# Altium schematic symbol library batteries_and_accus.SchLib: 13 symbols
Pins are listed as number, name and electrical type; pins without a type are passive.

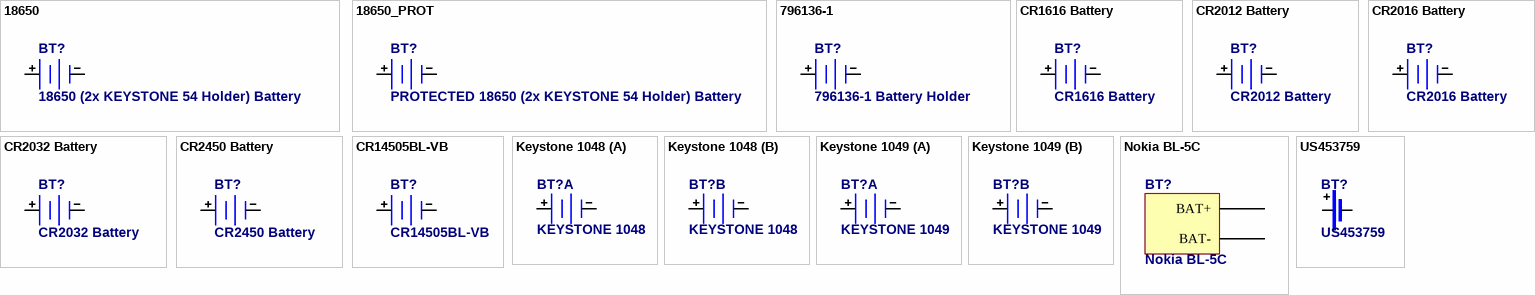
[diagram p0: symbols 18650 to US453759]

## 18650
designator BT?, comment 18650 (2x KEYSTONE 54 Holder) Battery
Published: 24-Mar-1999; Revision: July-2002: Re-released for DXP Platform.; Publisher: Altium Limited
footprint KEYSTONE_54
footprint KEYSTONE_54_W_18650
pins: 1 +, 2 -

## 18650_PROT
designator BT?, comment PROTECTED 18650 (2x KEYSTONE 54 Holder) Battery
Published: 24-Mar-1999; Revision: July-2002: Re-released for DXP Platform.; Publisher: Altium Limited
footprint KEYSTONE_54_W_PROT
footprint KEYSTONE_54_W_PROT_W_18650
pins: 1 +, 2 -

## 796136-1
designator BT?, comment 796136-1 Battery Holder
Tyco Connectivity 796136-1 CR2032 Battery Holder; Published: 24-Mar-1999; Revision: July-2002: Re-released for DXP Platform.; Publisher: Altium Limited; Supplier 1: TME; Supplier 2: Farnell; Supplier Part Number 1: 796136-1; Supplier Part Number 2: 1772402
footprint 796136-1 (Tyco Electronics 796136-1 CR2032 SMD Battery Holder)
pins: 1 +, 2 -

## CR1616 Battery
designator BT?
Published: 24-Mar-1999; Revision: July-2002: Re-released for DXP Platform.; Publisher: Altium Limited
footprint KEYSTONE_3016 (CR1612, 1620, 1632 Battery Surface Mount Retainer)
footprint KEYSTONE_3016_W_CR1632 (CR1612, 1620, 1632 Battery Surface Mount Retainer)
pins: 1 +, 2 -

## CR2012 Battery
designator BT?
Published: 24-Mar-1999; Revision: July-2002: Re-released for DXP Platform.; Publisher: Altium Limited
footprint KEYSTONE_3028 (CR2012 Battery Surface Mount Retainer)
pins: 1 +, 2 -

## CR2016 Battery
designator BT?
Published: 24-Mar-1999; Revision: July-2002: Re-released for DXP Platform.; Publisher: Altium Limited
footprint KEYSTONE_3026 (CR2016 Battery Surface Mount Retainer)
pins: 1 +, 2 -

## CR2032 Battery
designator BT?
Published: 24-Mar-1999; Revision: July-2002: Re-released for DXP Platform.; Publisher: Altium Limited
footprint SN2032
footprint CR2032
footprint KEYSTONE_3002 (CR2020, CR2025, CR2032 Battery Surface Mount Retainer)
footprint KEYSTONE_3034 (CR2020, CR2025, CR2032 Battery Surface Mount Retainer)
footprint KEYSTONE_3034_W_CR2032 (CR2020, CR2025, CR2032 Battery Surface Mount Retainer)
footprint KEYSTONE_3002_W_CR2032 (CR2020, CR2025, CR2032 Battery Surface Mount Retainer)
pins: 1 +, 2 -

## CR2450 Battery
designator BT?
Published: 24-Mar-1999; Revision: July-2002: Re-released for DXP Platform.; Publisher: Altium Limited
footprint KEYSTONE_3008 (CR2450 Battery Surface Mount Compact Contact)
pins: 1 +, 2 -

## CR14505BL-VB
designator BT?
CR14505BL-VB (AA Size); Published: 24-Mar-1999; Revision: July-2002: Re-released for DXP Platform.; Publisher: Altium Limited
footprint CR14505BL-VB
pins: 1 +, 2 -

## Keystone 1048
designator BT?, comment KEYSTONE 1048  (no BOM)
2x 18650 LiPo Acu in the KEYSTONE 1048 Holder; Published: 14-Sep-2006
footprint KEYSTONE_1048 (SMT double 18650 LiPo Holder)
footprint KEYSTONE_1048_W_18650 (SMT double 18650 LiPo Holder)
part A pins: 1 +, 2 -
part B pins: 3 -, 4 +

## Keystone 1049
designator BT?, comment KEYSTONE 1049  (no BOM)
2x 18650 LiPo Acu in the KEYSTONE 1049 Holder; Published: 14-Sep-2006
footprint KEYSTONE_1049 (THT double 18650 LiPo Holder)
footprint KEYSTONE_1049_W_18650 (THT double 18650 LiPo Holder)
part A pins: 1 +, 2 -
part B pins: 3 -, 4 +

## Nokia BL-5C
designator BT?
Nokia BL-5C 1050mAh Li-Ion Battery
footprint BL-5CT (Nokia BL-5CT Battery)
pins: BAT+, BAT-

## US453759
designator BT?
Sony US453759 1260mAh Li-POL 3,7V Prismatic Battery; Published: 24-Mar-1999; Revision: July-2002: Re-released for DXP Platform.; Publisher: Altium Limited
footprint Li-Pol_4.5x37.0x59.0mm (e.g. SONY US453759 1260mAh Li-POL 3,7V)
pins: 1 -, 2 +